# EAGLE library part EXBAP (library booz)
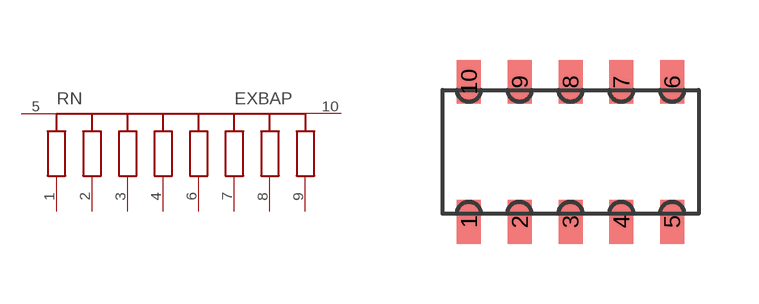
[diagram p10: symbol with the pads of EXBA; footprint EXBA]

Designator prefix RN

## EXBAP  [EXBA]
1  P$1
2  P$2
3  P$3
4  P$4
5  P$5
6  P$6
7  P$7
8  P$8
9  P$9
10  P$10

## Footprint EXBA (pad centres in mm)
smd 0.6 x 1.1: 1 -2.54,-1.75; 2 -1.27,-1.75; 3 0,-1.75; 4 1.27,-1.75; 5 2.54,-1.75; 6 2.54,1.75; 7 1.27,1.75; 8 0,1.75; 9 -1.27,1.75; 10 -2.54,1.75